# Altium footprint library Copter.PcbLib: 23 footprints (part 1 of 2)
Each footprint in its own frame and in the unit in brackets; x right, y up, seen from the top. Pads: shape width x height; smd on the part's side, far side on the other; paste and mask are expansions set on the pad; w line width, h text height; cw(c..) or ccw(c..) is an arc to the next point about the centre after c.
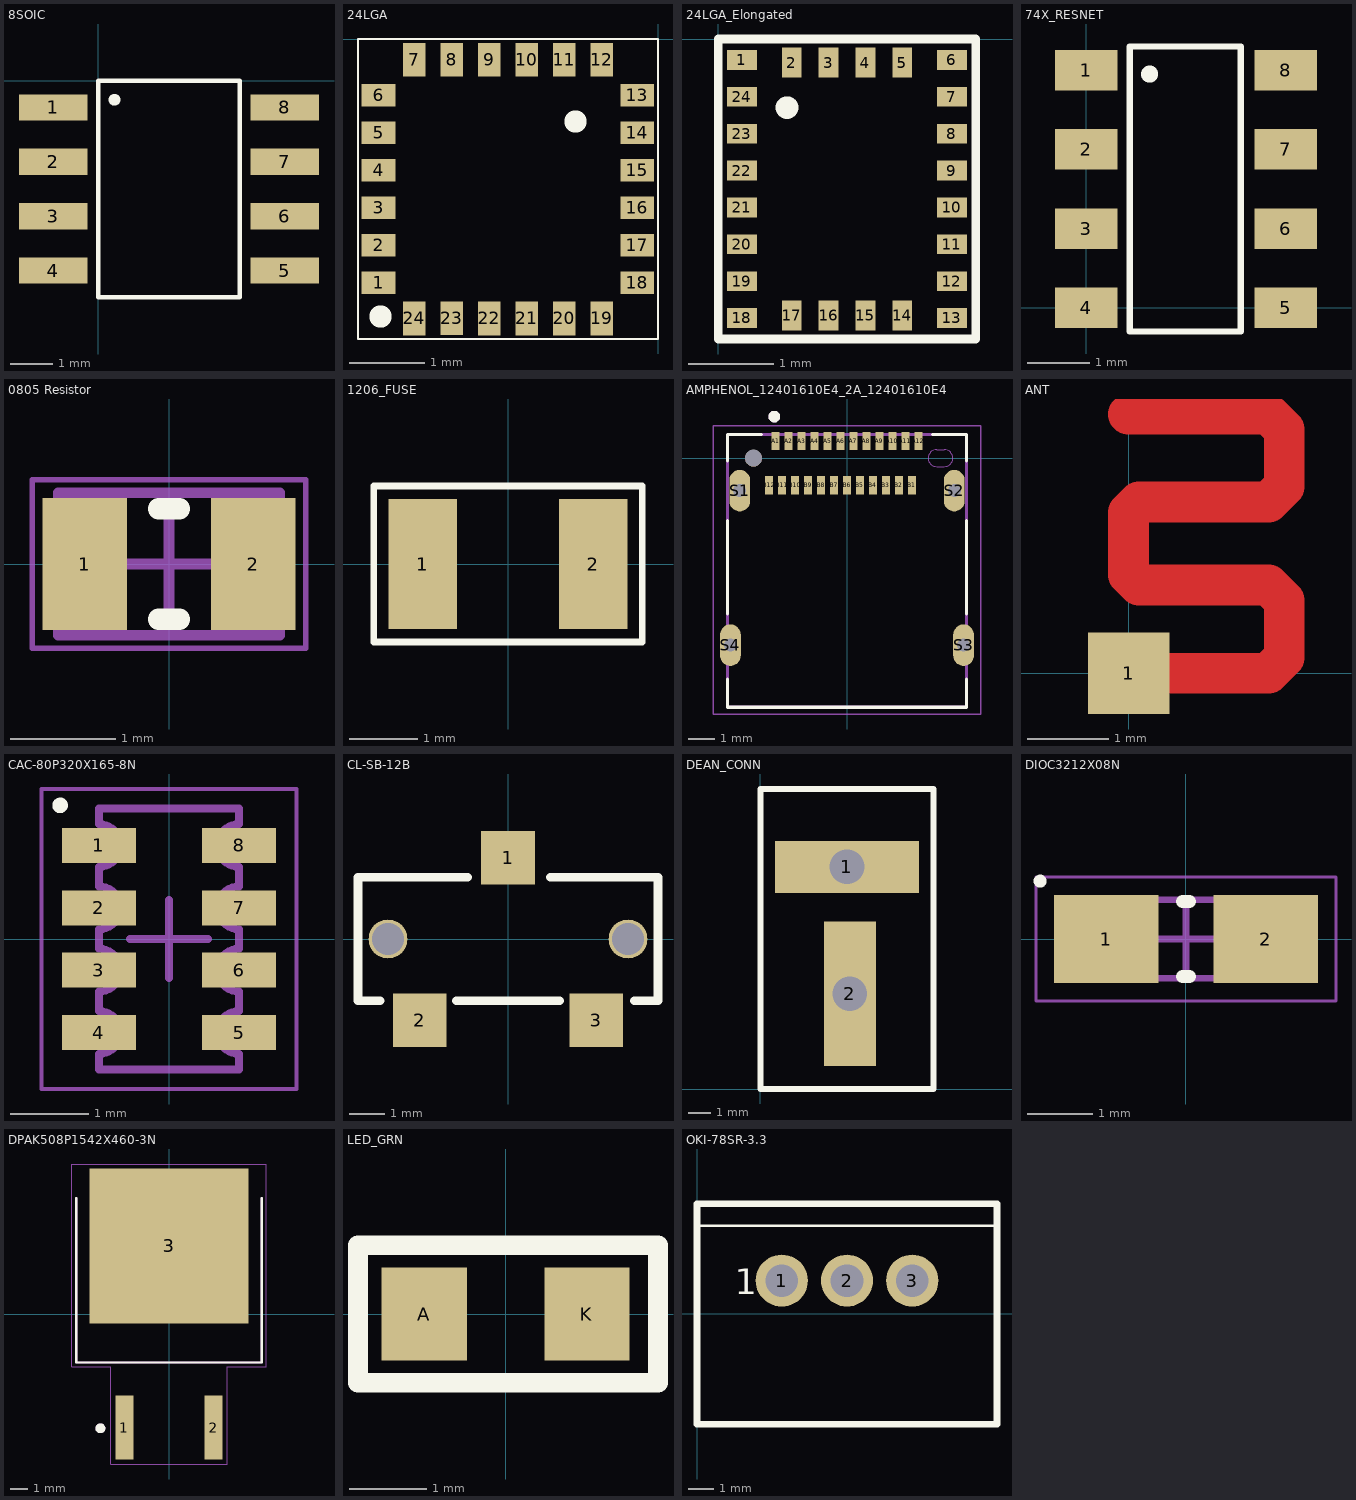
[diagram p0: the footprints below, top view; thin cyan lines are the x and y axes]

## 8SOIC [mm]
pads (8):
  rect 1.6x0.61 smd mask+0.025: 1(-1.049,-0.62) 2(-1.049,-1.89) 3(-1.049,-3.16) 4(-1.049,-4.43) 5(4.351,-4.43) 6(4.351,-3.16) 7(4.351,-1.89) 8(4.351,-0.62)
Top Overlay:
  circle w0.254: c0.381,-0.445 r0.01
  lines w0.1: 0,-5.05 0,0 3.302,0 3.302,-5.05 0,-5.05

## 24LGA [mm]
pads (24):
  rect 0.45x0.3 smd mask+0.025: 1(-3.725,-3.25) 2(-3.725,-2.75) 3(-3.725,-2.25) 4(-3.725,-1.75) 5(-3.725,-1.25) 6(-3.725,-0.75) 13(-0.275,-0.75) 14(-0.275,-1.25) 15(-0.275,-1.75) 16(-0.275,-2.25) 17(-0.275,-2.75) 18(-0.275,-3.25)
  rect 0.3x0.45 smd mask+0.025: 7(-3.25,-0.275) 8(-2.75,-0.275) 9(-2.25,-0.275) 10(-1.75,-0.275) 11(-1.25,-0.275) 12(-0.75,-0.275) 19(-0.75,-3.725) 20(-1.25,-3.725) 21(-1.75,-3.725) 22(-2.25,-3.725) 23(-2.75,-3.724) 24(-3.25,-3.725)
Top Overlay:
  circle w0.254: c-1.1,-1.1 r0.022
  circle w0.254: c-3.701,-3.701 r0.022
  lines w0.025: -4,-4 -4,0 0,0 0,-4 -4,-4

## 24LGA_Elongated [mm]
pads (24):
  rect 0.35x0.23 smd mask+0.025: 1(0.275,-0.245) 6(2.725,-0.245) 7(2.725,-0.675) 8(2.725,-1.105) 9(2.725,-1.535) 10(2.725,-1.965) 11(2.725,-2.395) 12(2.725,-2.825) 13(2.725,-3.255) 18(0.275,-3.255) 19(0.275,-2.825) 20(0.275,-2.395) 21(0.275,-1.965) 22(0.275,-1.535) 23(0.275,-1.105) 24(0.275,-0.675)
  rect 0.23x0.35 smd mask+0.025: 2(0.855,-0.275) 3(1.285,-0.275) 4(1.715,-0.275) 5(2.145,-0.275) 14(2.145,-3.225) 15(1.715,-3.225) 16(1.285,-3.225) 17(0.855,-3.225)
Top Overlay:
  circle w0.254: c0.8,-0.8 r0.005
  lines w0.1: 0,-3.5 0,0 3,0 3,-3.5 0,-3.5

## 74X_RESNET [mm]
pads (8):
  rect 1x0.65 smd mask+0.025: 1(0,3.81) 2(0,2.54) 3(0,1.27) 4(0,0) 5(3.2,0) 6(3.2,1.27) 7(3.2,2.54) 8(3.2,3.81)
Top Overlay:
  circle w0.254: c1.016,3.746 r0.01
  lines w0.1: 0.699,-0.381 2.476,-0.381 2.476,4.191 0.699,4.191 0.699,-0.381

## 0805 Resistor [mm]
height 0.6
pads (2):
  rect 0.8x1.25 smd: 1(-0.8,0) 2(0.8,0)
Top Overlay:
  lines w0.2: -0.1,-0.525 0.1,-0.525 ; -0.1,0.525 0.1,0.525
Mechanical 13:
  lines w0.1: -1.05,-0.675 -1.05,0.675 1.05,0.675 1.05,-0.675 -1.05,-0.675
Mechanical 15:
  lines w0.05: -1.3,-0.8 -1.3,0.8 1.3,0.8 1.3,-0.8 -1.3,-0.8
  lines w0.1: -0.5,0 0.5,0 ; 0,-0.5 0,0.5
3D body: height 0.6, standoff 0, extent -0.7,-0.675 0.7,0.675
3D body: height 0.6, standoff 0, extent -1.05,-0.675 -0.7,0.675
3D body: height 0.6, standoff 0, extent 0.7,-0.675 1.05,0.675

## 1206_FUSE [mm]
pads (2):
  rect 1x1.9 smd: 1(-1.25,0) 2(1.25,0)
Top Overlay:
  lines w0.1: -1.968,-1.143 -1.968,1.143 1.968,1.143 1.968,-1.143 -1.968,-1.143

## AMPHENOL_12401610E4_2A_12401610E4 [mm]
pads (29):
  rect 0.3x0.7 smd: A1(-2.75,0.66) A2(-2.25,0.66) A3(-1.75,0.66) A4(-1.25,0.66) A5(-0.75,0.66) A6(-0.25,0.66) A7(0.25,0.66) A8(0.75,0.66) A9(1.25,0.66) A10(1.75,0.66) A11(2.25,0.66) A12(2.75,0.66) B1(2.5,-1.04) B2(2,-1.04) B3(1.5,-1.04) B4(1,-1.04) B5(0.5,-1.04) B6(0,-1.04) B7(-0.5,-1.04) B8(-1,-1.04) B9(-1.5,-1.04) B10(-2,-1.04) B11(-2.5,-1.04) B12(-3,-1.04)
  round 0.65 hole 0.65 unplated: None(-3.6,0)
  oval 0.8x1.6 hole 0.5: S1(-4.13,-1.25) S2(4.13,-1.25) S3(4.49,-7.2) S4(-4.49,-7.2)
Top Overlay:
  circle w0.25: c-2.8,1.6 r0.1
  lines w0.127: -4.6,-8.5 -4.6,-9.59 4.6,-9.59 4.6,-8.5 ; -4.6,-6 -4.6,-2.4 ; -4.6,-0.1 -4.6,0.91 -3.3,0.91 ; 3.3,0.91 4.6,0.91 4.6,-0.1 ; 4.6,-6 4.6,-2.4
Mechanical 1:
  lines w0: -4.74,-7.5 ccw(c-4.49,-7.5) -4.49,-7.75 ccw(c-4.49,-7.5) -4.24,-7.5 -4.24,-6.9 ccw(c-4.49,-6.9) -4.49,-6.65 ccw(c-4.49,-6.9) -4.74,-6.9 -4.74,-7.5 ; -4.38,-1.55 ccw(c-4.13,-1.55) -4.13,-1.8 ccw(c-4.13,-1.55) -3.88,-1.55 -3.88,-0.95 ccw(c-4.13,-0.95) -4.13,-0.7 ccw(c-4.13,-0.95) -4.38,-0.95 -4.38,-1.55 ; 3.45,-0.325 cw(c3.45,0) 3.45,0.325 3.75,0.325 cw(c3.75,0) 3.75,-0.325 3.45,-0.325 ; 3.88,-1.55 ccw(c4.13,-1.55) 4.13,-1.8 ccw(c4.13,-1.55) 4.38,-1.55 4.38,-0.95 ccw(c4.13,-0.95) 4.13,-0.7 ccw(c4.13,-0.95) 3.88,-0.95 3.88,-1.55 ; 4.24,-7.5 ccw(c4.49,-7.5) 4.49,-7.75 ccw(c4.49,-7.5) 4.74,-7.5 4.74,-6.9 ccw(c4.49,-6.9) 4.49,-6.65 ccw(c4.49,-6.9) 4.24,-6.9 4.24,-7.5
Mechanical 4:
  circle w0.25: c-2.8,1.6 r0.1
  circle w0.25: c-2.8,1.6 r0.1
  lines w0.127: -4.6,-9.59 -4.6,0.91 ; -4.6,-9.59 4.6,-9.59 ; -4.6,-9.59 -4.6,0.91 ; -4.6,-9.59 4.6,-9.59 ; -4.6,0.91 4.6,0.91 ; -4.6,0.91 4.6,0.91 ; 4.6,-9.59 4.6,0.91 ; 4.6,-9.59 4.6,0.91
Mechanical 16:
  lines w0.05: -5.15,-9.85 5.15,-9.85 5.15,1.25 -5.15,1.25 -5.15,-9.85
3D body "M-12401610E.stp": height 3.27, standoff -1.31, extent -4.6,-9.55 4.6,1

## ANT [mm]
pads (1):
  rect 1x1 smd: 1(0,0)
Top Layer:
  lines w0.5: 0,0 1.714,0 1.905,0.191 1.905,0.889 1.714,1.079 0.127,1.079 0,1.206 0,1.968 0.127,2.095 1.714,2.095 1.905,2.286 1.905,2.984 1.714,3.175 0,3.175

## CAC-80P320X165-8N [mm] "Chip Array, Concave, 8-Leads, Pitch 0.80mm,  Body 3.20x1.65mm,  IPC Medium Density"
height 0.7
pads (8):
  rect 0.95x0.45 smd: 1(-0.9,1.2) 2(-0.9,0.4) 3(-0.9,-0.4) 4(-0.9,-1.2) 5(0.9,-1.2) 6(0.9,-0.4) 7(0.9,0.4) 8(0.9,1.2)
Top Overlay:
  circle w0.1: c-1.397,1.714 r0.05
Mechanical 13:
  lines w0.1: -0.9,-1.675 -0.9,-1.475 ccw(c-0.9,-1.2) -0.9,-0.925 -0.9,-0.675 ccw(c-0.9,-0.4) -0.9,-0.125 -0.9,0.125 ccw(c-0.9,0.4) -0.9,0.675 -0.9,0.925 ccw(c-0.9,1.2) -0.9,1.475 -0.9,1.675 0.9,1.675 0.9,1.475 ccw(c0.9,1.2) 0.9,0.925 0.9,0.675 ccw(c0.9,0.4) 0.9,0.125 0.9,-0.125 ccw(c0.9,-0.4) 0.9,-0.675 0.9,-0.925 ccw(c0.9,-1.2) 0.9,-1.475 0.9,-1.675 -0.9,-1.675
Mechanical 15:
  lines w0.05: -1.635,-1.925 -1.635,1.925 1.635,1.925 1.635,-1.925 -1.635,-1.925
  lines w0.1: -0.5,0 0.5,0 ; 0,-0.5 0,0.5
3D body: height 0.7, standoff 0, extent -0.925,-1.675 0.925,1.675

## CL-SB-12B [mm]
pads (5):
  rrect2% 1.524x1.524 smd: 1(0,2.3) 2(-2.5,-2.3) 3(2.5,-2.3)
  round 1.1 hole 0.9: ""(-3.4,0) ""(3.4,0)
Top Overlay:
  lines w0.254: -3.619,-1.75 -4.25,-1.75 -4.25,1.75 -1.143,1.75 ; -1.46,-1.75 1.46,-1.75 ; 1.206,1.75 4.25,1.75 4.25,-1.75 3.584,-1.75
3D body "CL-SB-12B-01T.stp": height 5.5, standoff -0.8, extent -4.2,-2.45 4.3,2.55

## DEAN_CONN [mil]
pads (2):
  rect 250x90 hole 60 square: 1(150,385)
  rect 90x250 hole 60 square: 2(155,165)
Top Overlay:
  lines w10: 0,0 300,0 300,520 0,520 0,0

## DIOC3212X08N [mm] "Chip Diode, 2-Leads, Body 3.20x1.20mm, IPC Medium Density"
height 0.8
pads (2):
  rect 1.6x1.35 smd: 1(-1.225,0) 2(1.225,0)
Top Overlay:
  circle w0.1: c-2.237,0.887 r0.05
  lines w0.2: -0.05,-0.575 0.05,-0.575 ; -0.05,0.575 0.05,0.575
Mechanical 13:
  lines w0.1: -1.6,-0.6 -1.6,0.6 1.6,0.6 1.6,-0.6 -1.6,-0.6
Mechanical 15:
  lines w0.05: -2.3,-0.95 -2.3,0.95 2.3,0.95 2.3,-0.95 -2.3,-0.95
  lines w0.1: -0.5,0 0.5,0 ; 0,-0.5 0,0.5
3D body: height 0.8, standoff 0, extent -0.5,-0.6 0.5,0.6
3D body: height 0.8, standoff 0, extent -1.6,-0.6 -0.5,0.6
3D body: height 0.8, standoff 0, extent 0.5,-0.6 1.6,0.6

## DPAK508P1542X460-3N [mm]
pads (3):
  rect 1.02x3.64 smd: 1(-2.54,-6.46) 2(2.54,-6.46)
  rect 9.07x8.81 smd: 3(0,3.87)
Top Overlay:
  circle w0.28: c-3.9,-6.5 r0.14
  lines w0.127: -5.28,6.603 -5.28,-2.758 5.28,-2.758 5.28,6.603
Top Paste:
  region: 2.9,0.895 4.14,0.895 4.14,-0.395 2.9,-0.395
  region: 2.9,2.705 4.14,2.705 4.14,1.415 2.9,1.415
  region: 1.14,0.895 2.38,0.895 2.38,-0.395 1.14,-0.395
  region: 1.14,2.705 2.38,2.705 2.38,1.415 1.14,1.415
  region: -0.62,0.895 0.62,0.895 0.62,-0.395 -0.62,-0.395
  region: -0.62,2.705 0.62,2.705 0.62,1.415 -0.62,1.415
  region: -2.38,0.895 -1.14,0.895 -1.14,-0.395 -2.38,-0.395
  region: -2.38,2.705 -1.14,2.705 -1.14,1.415 -2.38,1.415
  region: -4.14,0.895 -2.9,0.895 -2.9,-0.395 -4.14,-0.395
  region: -4.14,2.705 -2.9,2.705 -2.9,1.415 -4.14,1.415
  region: 2.9,6.325 4.14,6.325 4.14,5.035 2.9,5.035
  region: 1.14,6.325 2.38,6.325 2.38,5.035 1.14,5.035
  region: -0.62,6.325 0.62,6.325 0.62,5.035 -0.62,5.035
  region: -2.38,6.325 -1.14,6.325 -1.14,5.035 -2.38,5.035
  region: 2.9,8.135 4.14,8.135 4.14,6.845 2.9,6.845
  region: 1.14,8.135 2.38,8.135 2.38,6.845 1.14,6.845
  region: -0.62,8.135 0.62,8.135 0.62,6.845 -0.62,6.845
  region: -2.38,8.135 -1.14,8.135 -1.14,6.845 -2.38,6.845
  region: -4.14,8.135 -2.9,8.135 -2.9,6.845 -4.14,6.845
  region: -4.14,6.325 -2.9,6.325 -2.9,5.035 -4.14,5.035
  region: 2.9,4.515 4.14,4.515 4.14,3.225 2.9,3.225
  region: 1.14,4.515 2.38,4.515 2.38,3.225 1.14,3.225
  region: -4.14,4.515 -2.9,4.515 -2.9,3.225 -4.14,3.225
  region: -2.38,4.515 -1.14,4.515 -1.14,3.225 -2.38,3.225
  region: -0.62,4.515 0.62,4.515 0.62,3.225 -0.62,3.225
Mechanical 4:
  circle w0.28: c-3.9,-6.5 r0.14
  circle w0.28: c-3.9,-6.5 r0.14
  lines w0.127: -5.28,-2.758 -5.28,6.603 -5.28,-2.758 ; -5.28,-2.758 5.28,-2.758 ; -5.28,-2.758 5.28,-2.758 ; 5.28,-2.758 5.28,6.603 5.28,-2.758
Mechanical 16:
  lines w0.05: -5.53,-3.01 -5.53,8.53 5.53,8.53 5.53,-3.01 3.3,-3.01 3.3,-8.53 -3.3,-8.53 -3.3,-3.01 -5.53,-3.01

## LED_GRN [mm]
pads (2):
  rect 1.1x1.2 smd: A(-1.05,0) K(1.05,0)
Top Overlay:
  lines w0.254: -1.905,-0.889 -0.182,-0.889 0.182,-0.889 1.968,-0.889 1.968,0.889 -1.905,0.889 -1.905,0.524 -1.905,-0.381 -1.905,-0.889

## OKI-78SR-3.3 [mil] "Linear Regulator Replacement DC DC Converter 1 Output 3.3V    1.5A 7V - 36V Input"
pads (3):
  round 80 hole 50: 1(130,51.18) 2(230,51.18) 3(330,51.18)
Top Overlay:
  lines w3.94: 0,135 460,135
  lines w10: 0,-169.29 460,-169.29 460,169.29 0,169.29 0,-169.29
  text "1" at 57.5,30 h39.37

## PCBComponent_1 [mm]